# Altium integrated library DO3316P.IntLib: 1 symbol
Pins are listed as number, name and electrical type; pins without a type are passive.

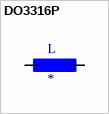
[diagram p0: symbol DO3316P]

## DO3316P
designator L
<b>COILCRAFT</b>; MP: DO3316P; Price: None; Value: *; Package: None; SnapEDA_Link: https://www.snapeda.com/parts/DO3316P/Coilcraft/view-part/561901/?ref=snap; Availability: Unavailable; MF: Coilcraft
footprint DO3316P
pins: 1, 2